# Altium footprint library Connector_Samtec_HLE_THT.PcbLib: 141 footprints (part 3 of 9)
Each footprint in its own frame and in the unit in brackets; x right, y up, seen from the top. Pads: shape width x height; smd on the part's side, far side on the other; paste and mask are expansions set on the pad; w line width, h text height; cw(c..) or ccw(c..) is an arc to the next point about the centre after c.
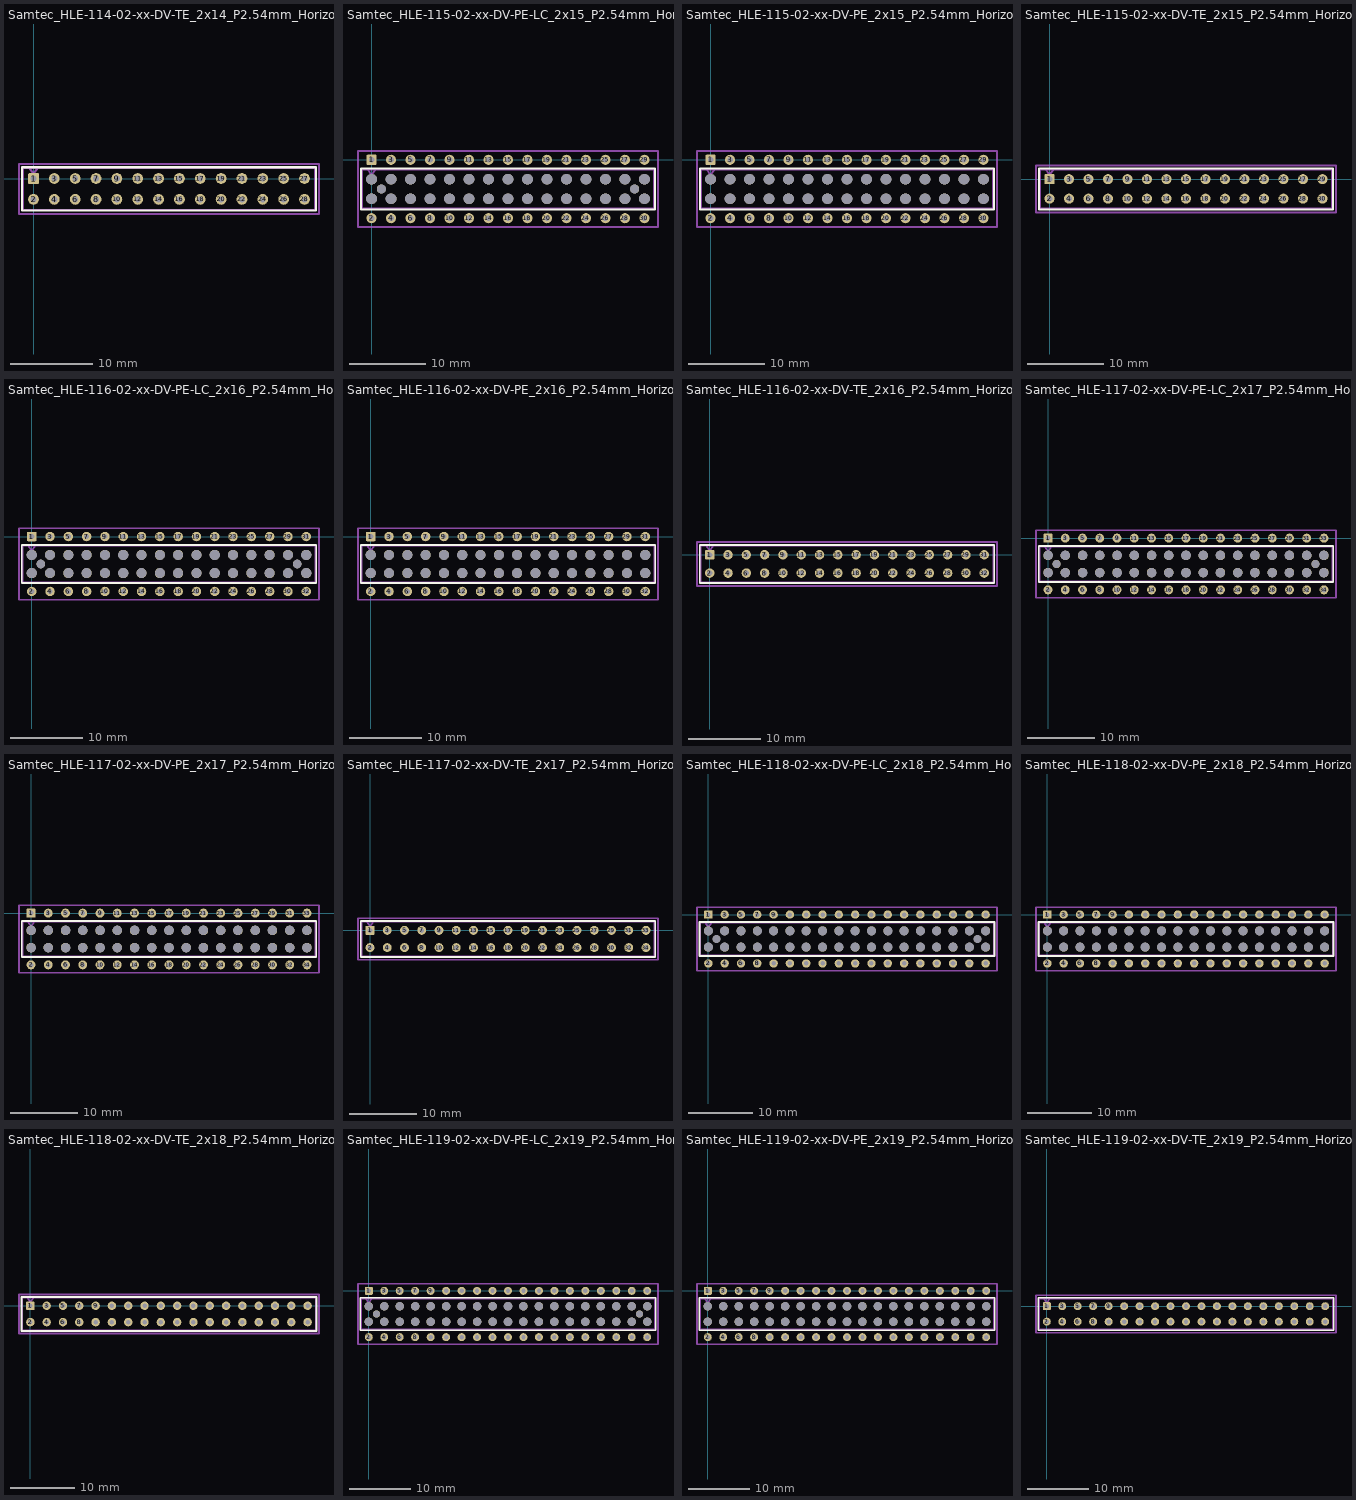
[diagram p2: the footprints below, top view; thin cyan lines are the x and y axes]

## Samtec_HLE-114-02-xx-DV-TE_2x14_P2.54mm_Horizontal [mm]
pads (28):
  rrect19% 1.31x1.31 hole 0.71: 1(0,0)
  round 1.31 hole 0.71: 2(0,-2.54) 3(2.54,0) 4(2.54,-2.54) 5(5.08,0) 6(5.08,-2.54) 7(7.62,0) 8(7.62,-2.54) 9(10.16,0) 10(10.16,-2.54) 11(12.7,0) 12(12.7,-2.54) 13(15.24,0) 14(15.24,-2.54) 15(17.78,0) 16(17.78,-2.54) 17(20.32,0) 18(20.32,-2.54) 19(22.86,0) 20(22.86,-2.54) 21(25.4,0) 22(25.4,-2.54) 23(27.94,0) 24(27.94,-2.54) 25(30.48,0) 26(30.48,-2.54) 27(33.02,0) 28(33.02,-2.54)
F.SilkS:
  lines w0.254: -1.38,-3.92 34.4,-3.92 34.4,1.38 -1.38,1.38 -1.38,-3.92
Top Assembly:
  lines w0.254: -0.5,1.27 0,0.563 0.5,1.27 ; -1.27,-3.81 34.29,-3.81 34.29,1.27 -1.27,1.27 -1.27,-3.81
  text "'.Designator'" at 12.463,-3.95 h1
Top Courtyard:
  lines w0.254: -1.77,-4.32 34.79,-4.32 34.79,1.77 -1.77,1.77 -1.77,-4.32
Top Designator:
  text ".Designator" at 8.892,-1.783 h1.52

## Samtec_HLE-115-02-xx-DV-PE-LC_2x15_P2.54mm_Horizontal [mm]
pads (62):
  rrect19% 1.31x1.31 hole 0.71: 1(0,0)
  round 1.31 hole 0.71: 2(0,-7.62) 3(2.54,0) 4(2.54,-7.62) 5(5.08,0) 6(5.08,-7.62) 7(7.62,0) 8(7.62,-7.62) 9(10.16,0) 10(10.16,-7.62) 11(12.7,0) 12(12.7,-7.62) 13(15.24,0) 14(15.24,-7.62) 15(17.78,0) 16(17.78,-7.62) 17(20.32,0) 18(20.32,-7.62) 19(22.86,0) 20(22.86,-7.62) 21(25.4,0) 22(25.4,-7.62) 23(27.94,0) 24(27.94,-7.62) 25(30.48,0) 26(30.48,-7.62) 27(33.02,0) 28(33.02,-7.62) 29(35.56,0) 30(35.56,-7.62)
  round 1.4 hole 1.4: Un1(0,-2.54) Un2(0,-5.08) Un4(2.54,-2.54) Un5(2.54,-5.08) Un6(5.08,-2.54) Un7(5.08,-5.08) Un8(7.62,-2.54) Un9(7.62,-5.08) Un10(10.16,-2.54) Un11(10.16,-5.08) Un12(12.7,-2.54) Un13(12.7,-5.08) Un14(15.24,-2.54) Un15(15.24,-5.08) Un16(17.78,-2.54) Un17(17.78,-5.08) Un18(20.32,-2.54) Un19(20.32,-5.08) Un20(22.86,-2.54) Un21(22.86,-5.08) Un22(25.4,-2.54) Un23(25.4,-5.08) Un24(27.94,-2.54) Un25(27.94,-5.08) Un26(30.48,-2.54) Un27(30.48,-5.08) Un28(33.02,-2.54) Un29(33.02,-5.08) Un31(35.56,-2.54) Un32(35.56,-5.08)
  round 1.19 hole 1.19: Un3(1.27,-3.81) Un30(34.29,-3.81)
F.SilkS:
  lines w0.254: -1.38,-6.46 36.94,-6.46 36.94,-1.16 -1.38,-1.16 -1.38,-6.46
Top Assembly:
  lines w0.254: -0.5,-1.27 0,-1.977 0.5,-1.27 ; -1.27,-6.35 36.83,-6.35 36.83,-1.27 -1.27,-1.27 -1.27,-6.35
  text "'.Designator'" at 13.733,-6.49 h1
Top Courtyard:
  lines w0.254: -1.77,-8.78 37.33,-8.78 37.33,1.16 -1.77,1.16 -1.77,-8.78
Top Designator:
  text ".Designator" at 10.162,-4.318 h1.52

## Samtec_HLE-115-02-xx-DV-PE_2x15_P2.54mm_Horizontal [mm]
pads (60):
  rrect19% 1.31x1.31 hole 0.71: 1(0,0)
  round 1.31 hole 0.71: 2(0,-7.62) 3(2.54,0) 4(2.54,-7.62) 5(5.08,0) 6(5.08,-7.62) 7(7.62,0) 8(7.62,-7.62) 9(10.16,0) 10(10.16,-7.62) 11(12.7,0) 12(12.7,-7.62) 13(15.24,0) 14(15.24,-7.62) 15(17.78,0) 16(17.78,-7.62) 17(20.32,0) 18(20.32,-7.62) 19(22.86,0) 20(22.86,-7.62) 21(25.4,0) 22(25.4,-7.62) 23(27.94,0) 24(27.94,-7.62) 25(30.48,0) 26(30.48,-7.62) 27(33.02,0) 28(33.02,-7.62) 29(35.56,0) 30(35.56,-7.62)
  round 1.4 hole 1.4: Un1(0,-2.54) Un2(0,-5.08) Un3(2.54,-2.54) Un4(2.54,-5.08) Un5(5.08,-2.54) Un6(5.08,-5.08) Un7(7.62,-2.54) Un8(7.62,-5.08) Un9(10.16,-2.54) Un10(10.16,-5.08) Un11(12.7,-2.54) Un12(12.7,-5.08) Un13(15.24,-2.54) Un14(15.24,-5.08) Un15(17.78,-2.54) Un16(17.78,-5.08) Un17(20.32,-2.54) Un18(20.32,-5.08) Un19(22.86,-2.54) Un20(22.86,-5.08) Un21(25.4,-2.54) Un22(25.4,-5.08) Un23(27.94,-2.54) Un24(27.94,-5.08) Un25(30.48,-2.54) Un26(30.48,-5.08) Un27(33.02,-2.54) Un28(33.02,-5.08) Un29(35.56,-2.54) Un30(35.56,-5.08)
F.SilkS:
  lines w0.254: -1.38,-6.46 36.94,-6.46 36.94,-1.16 -1.38,-1.16 -1.38,-6.46
Top Assembly:
  lines w0.254: -0.5,-1.27 0,-1.977 0.5,-1.27 ; -1.27,-6.35 36.83,-6.35 36.83,-1.27 -1.27,-1.27 -1.27,-6.35
  text "'.Designator'" at 13.733,-6.49 h1
Top Courtyard:
  lines w0.254: -1.77,-8.78 37.33,-8.78 37.33,1.16 -1.77,1.16 -1.77,-8.78
Top Designator:
  text ".Designator" at 10.162,-4.318 h1.52

## Samtec_HLE-115-02-xx-DV-TE_2x15_P2.54mm_Horizontal [mm]
pads (30):
  rrect19% 1.31x1.31 hole 0.71: 1(0,0)
  round 1.31 hole 0.71: 2(0,-2.54) 3(2.54,0) 4(2.54,-2.54) 5(5.08,0) 6(5.08,-2.54) 7(7.62,0) 8(7.62,-2.54) 9(10.16,0) 10(10.16,-2.54) 11(12.7,0) 12(12.7,-2.54) 13(15.24,0) 14(15.24,-2.54) 15(17.78,0) 16(17.78,-2.54) 17(20.32,0) 18(20.32,-2.54) 19(22.86,0) 20(22.86,-2.54) 21(25.4,0) 22(25.4,-2.54) 23(27.94,0) 24(27.94,-2.54) 25(30.48,0) 26(30.48,-2.54) 27(33.02,0) 28(33.02,-2.54) 29(35.56,0) 30(35.56,-2.54)
F.SilkS:
  lines w0.254: -1.38,-3.92 36.94,-3.92 36.94,1.38 -1.38,1.38 -1.38,-3.92
Top Assembly:
  lines w0.254: -0.5,1.27 0,0.563 0.5,1.27 ; -1.27,-3.81 36.83,-3.81 36.83,1.27 -1.27,1.27 -1.27,-3.81
  text "'.Designator'" at 13.733,-3.95 h1
Top Courtyard:
  lines w0.254: -1.77,-4.32 37.33,-4.32 37.33,1.77 -1.77,1.77 -1.77,-4.32
Top Designator:
  text ".Designator" at 10.162,-1.783 h1.52

## Samtec_HLE-116-02-xx-DV-PE-LC_2x16_P2.54mm_Horizontal [mm]
pads (66):
  rrect19% 1.31x1.31 hole 0.71: 1(0,0)
  round 1.31 hole 0.71: 2(0,-7.62) 3(2.54,0) 4(2.54,-7.62) 5(5.08,0) 6(5.08,-7.62) 7(7.62,0) 8(7.62,-7.62) 9(10.16,0) 10(10.16,-7.62) 11(12.7,0) 12(12.7,-7.62) 13(15.24,0) 14(15.24,-7.62) 15(17.78,0) 16(17.78,-7.62) 17(20.32,0) 18(20.32,-7.62) 19(22.86,0) 20(22.86,-7.62) 21(25.4,0) 22(25.4,-7.62) 23(27.94,0) 24(27.94,-7.62) 25(30.48,0) 26(30.48,-7.62) 27(33.02,0) 28(33.02,-7.62) 29(35.56,0) 30(35.56,-7.62) 31(38.1,0) 32(38.1,-7.62)
  round 1.4 hole 1.4: Un1(0,-2.54) Un2(0,-5.08) Un4(2.54,-2.54) Un5(2.54,-5.08) Un6(5.08,-2.54) Un7(5.08,-5.08) Un8(7.62,-2.54) Un9(7.62,-5.08) Un10(10.16,-2.54) Un11(10.16,-5.08) Un12(12.7,-2.54) Un13(12.7,-5.08) Un14(15.24,-2.54) Un15(15.24,-5.08) Un16(17.78,-2.54) Un17(17.78,-5.08) Un18(20.32,-2.54) Un19(20.32,-5.08) Un20(22.86,-2.54) Un21(22.86,-5.08) Un22(25.4,-2.54) Un23(25.4,-5.08) Un24(27.94,-2.54) Un25(27.94,-5.08) Un26(30.48,-2.54) Un27(30.48,-5.08) Un28(33.02,-2.54) Un29(33.02,-5.08) Un30(35.56,-2.54) Un31(35.56,-5.08) Un33(38.1,-2.54) Un34(38.1,-5.08)
  round 1.19 hole 1.19: Un3(1.27,-3.81) Un32(36.83,-3.81)
F.SilkS:
  lines w0.254: -1.38,-6.46 39.48,-6.46 39.48,-1.16 -1.38,-1.16 -1.38,-6.46
Top Assembly:
  lines w0.254: -0.5,-1.27 0,-1.977 0.5,-1.27 ; -1.27,-6.35 39.37,-6.35 39.37,-1.27 -1.27,-1.27 -1.27,-6.35
  text "'.Designator'" at 15.003,-6.49 h1
Top Courtyard:
  lines w0.254: -1.77,-8.78 39.87,-8.78 39.87,1.16 -1.77,1.16 -1.77,-8.78
Top Designator:
  text ".Designator" at 11.432,-4.318 h1.52

## Samtec_HLE-116-02-xx-DV-PE_2x16_P2.54mm_Horizontal [mm]
pads (64):
  rrect19% 1.31x1.31 hole 0.71: 1(0,0)
  round 1.31 hole 0.71: 2(0,-7.62) 3(2.54,0) 4(2.54,-7.62) 5(5.08,0) 6(5.08,-7.62) 7(7.62,0) 8(7.62,-7.62) 9(10.16,0) 10(10.16,-7.62) 11(12.7,0) 12(12.7,-7.62) 13(15.24,0) 14(15.24,-7.62) 15(17.78,0) 16(17.78,-7.62) 17(20.32,0) 18(20.32,-7.62) 19(22.86,0) 20(22.86,-7.62) 21(25.4,0) 22(25.4,-7.62) 23(27.94,0) 24(27.94,-7.62) 25(30.48,0) 26(30.48,-7.62) 27(33.02,0) 28(33.02,-7.62) 29(35.56,0) 30(35.56,-7.62) 31(38.1,0) 32(38.1,-7.62)
  round 1.4 hole 1.4: Un1(0,-2.54) Un2(0,-5.08) Un3(2.54,-2.54) Un4(2.54,-5.08) Un5(5.08,-2.54) Un6(5.08,-5.08) Un7(7.62,-2.54) Un8(7.62,-5.08) Un9(10.16,-2.54) Un10(10.16,-5.08) Un11(12.7,-2.54) Un12(12.7,-5.08) Un13(15.24,-2.54) Un14(15.24,-5.08) Un15(17.78,-2.54) Un16(17.78,-5.08) Un17(20.32,-2.54) Un18(20.32,-5.08) Un19(22.86,-2.54) Un20(22.86,-5.08) Un21(25.4,-2.54) Un22(25.4,-5.08) Un23(27.94,-2.54) Un24(27.94,-5.08) Un25(30.48,-2.54) Un26(30.48,-5.08) Un27(33.02,-2.54) Un28(33.02,-5.08) Un29(35.56,-2.54) Un30(35.56,-5.08) Un31(38.1,-2.54) Un32(38.1,-5.08)
F.SilkS:
  lines w0.254: -1.38,-6.46 39.48,-6.46 39.48,-1.16 -1.38,-1.16 -1.38,-6.46
Top Assembly:
  lines w0.254: -0.5,-1.27 0,-1.977 0.5,-1.27 ; -1.27,-6.35 39.37,-6.35 39.37,-1.27 -1.27,-1.27 -1.27,-6.35
  text "'.Designator'" at 15.003,-6.49 h1
Top Courtyard:
  lines w0.254: -1.77,-8.78 39.87,-8.78 39.87,1.16 -1.77,1.16 -1.77,-8.78
Top Designator:
  text ".Designator" at 11.432,-4.318 h1.52

## Samtec_HLE-116-02-xx-DV-TE_2x16_P2.54mm_Horizontal [mm]
pads (32):
  rrect19% 1.31x1.31 hole 0.71: 1(0,0)
  round 1.31 hole 0.71: 2(0,-2.54) 3(2.54,0) 4(2.54,-2.54) 5(5.08,0) 6(5.08,-2.54) 7(7.62,0) 8(7.62,-2.54) 9(10.16,0) 10(10.16,-2.54) 11(12.7,0) 12(12.7,-2.54) 13(15.24,0) 14(15.24,-2.54) 15(17.78,0) 16(17.78,-2.54) 17(20.32,0) 18(20.32,-2.54) 19(22.86,0) 20(22.86,-2.54) 21(25.4,0) 22(25.4,-2.54) 23(27.94,0) 24(27.94,-2.54) 25(30.48,0) 26(30.48,-2.54) 27(33.02,0) 28(33.02,-2.54) 29(35.56,0) 30(35.56,-2.54) 31(38.1,0) 32(38.1,-2.54)
F.SilkS:
  lines w0.254: -1.38,-3.92 39.48,-3.92 39.48,1.38 -1.38,1.38 -1.38,-3.92
Top Assembly:
  lines w0.254: -0.5,1.27 0,0.563 0.5,1.27 ; -1.27,-3.81 39.37,-3.81 39.37,1.27 -1.27,1.27 -1.27,-3.81
  text "'.Designator'" at 15.003,-3.95 h1
Top Courtyard:
  lines w0.254: -1.77,-4.32 39.87,-4.32 39.87,1.77 -1.77,1.77 -1.77,-4.32
Top Designator:
  text ".Designator" at 11.432,-1.783 h1.52

## Samtec_HLE-117-02-xx-DV-PE-LC_2x17_P2.54mm_Horizontal [mm]
pads (70):
  rrect19% 1.31x1.31 hole 0.71: 1(0,0)
  round 1.31 hole 0.71: 2(0,-7.62) 3(2.54,0) 4(2.54,-7.62) 5(5.08,0) 6(5.08,-7.62) 7(7.62,0) 8(7.62,-7.62) 9(10.16,0) 10(10.16,-7.62) 11(12.7,0) 12(12.7,-7.62) 13(15.24,0) 14(15.24,-7.62) 15(17.78,0) 16(17.78,-7.62) 17(20.32,0) 18(20.32,-7.62) 19(22.86,0) 20(22.86,-7.62) 21(25.4,0) 22(25.4,-7.62) 23(27.94,0) 24(27.94,-7.62) 25(30.48,0) 26(30.48,-7.62) 27(33.02,0) 28(33.02,-7.62) 29(35.56,0) 30(35.56,-7.62) 31(38.1,0) 32(38.1,-7.62) 33(40.64,0) 34(40.64,-7.62)
  round 1.4 hole 1.4: Un1(0,-2.54) Un2(0,-5.08) Un4(2.54,-2.54) Un5(2.54,-5.08) Un6(5.08,-2.54) Un7(5.08,-5.08) Un8(7.62,-2.54) Un9(7.62,-5.08) Un10(10.16,-2.54) Un11(10.16,-5.08) Un12(12.7,-2.54) Un13(12.7,-5.08) Un14(15.24,-2.54) Un15(15.24,-5.08) Un16(17.78,-2.54) Un17(17.78,-5.08) Un18(20.32,-2.54) Un19(20.32,-5.08) Un20(22.86,-2.54) Un21(22.86,-5.08) Un22(25.4,-2.54) Un23(25.4,-5.08) Un24(27.94,-2.54) Un25(27.94,-5.08) Un26(30.48,-2.54) Un27(30.48,-5.08) Un28(33.02,-2.54) Un29(33.02,-5.08) Un30(35.56,-2.54) Un31(35.56,-5.08) Un32(38.1,-2.54) Un33(38.1,-5.08) Un35(40.64,-2.54) Un36(40.64,-5.08)
  round 1.19 hole 1.19: Un3(1.27,-3.81) Un34(39.37,-3.81)
F.SilkS:
  lines w0.254: -1.38,-6.46 42.02,-6.46 42.02,-1.16 -1.38,-1.16 -1.38,-6.46
Top Assembly:
  lines w0.254: -0.5,-1.27 0,-1.977 0.5,-1.27 ; -1.27,-6.35 41.91,-6.35 41.91,-1.27 -1.27,-1.27 -1.27,-6.35
  text "'.Designator'" at 16.273,-6.49 h1
Top Courtyard:
  lines w0.254: -1.77,-8.78 42.41,-8.78 42.41,1.16 -1.77,1.16 -1.77,-8.78
Top Designator:
  text ".Designator" at 12.702,-4.318 h1.52

## Samtec_HLE-117-02-xx-DV-PE_2x17_P2.54mm_Horizontal [mm]
pads (68):
  rrect19% 1.31x1.31 hole 0.71: 1(0,0)
  round 1.31 hole 0.71: 2(0,-7.62) 3(2.54,0) 4(2.54,-7.62) 5(5.08,0) 6(5.08,-7.62) 7(7.62,0) 8(7.62,-7.62) 9(10.16,0) 10(10.16,-7.62) 11(12.7,0) 12(12.7,-7.62) 13(15.24,0) 14(15.24,-7.62) 15(17.78,0) 16(17.78,-7.62) 17(20.32,0) 18(20.32,-7.62) 19(22.86,0) 20(22.86,-7.62) 21(25.4,0) 22(25.4,-7.62) 23(27.94,0) 24(27.94,-7.62) 25(30.48,0) 26(30.48,-7.62) 27(33.02,0) 28(33.02,-7.62) 29(35.56,0) 30(35.56,-7.62) 31(38.1,0) 32(38.1,-7.62) 33(40.64,0) 34(40.64,-7.62)
  round 1.4 hole 1.4: Un1(0,-2.54) Un2(0,-5.08) Un3(2.54,-2.54) Un4(2.54,-5.08) Un5(5.08,-2.54) Un6(5.08,-5.08) Un7(7.62,-2.54) Un8(7.62,-5.08) Un9(10.16,-2.54) Un10(10.16,-5.08) Un11(12.7,-2.54) Un12(12.7,-5.08) Un13(15.24,-2.54) Un14(15.24,-5.08) Un15(17.78,-2.54) Un16(17.78,-5.08) Un17(20.32,-2.54) Un18(20.32,-5.08) Un19(22.86,-2.54) Un20(22.86,-5.08) Un21(25.4,-2.54) Un22(25.4,-5.08) Un23(27.94,-2.54) Un24(27.94,-5.08) Un25(30.48,-2.54) Un26(30.48,-5.08) Un27(33.02,-2.54) Un28(33.02,-5.08) Un29(35.56,-2.54) Un30(35.56,-5.08) Un31(38.1,-2.54) Un32(38.1,-5.08) Un33(40.64,-2.54) Un34(40.64,-5.08)
F.SilkS:
  lines w0.254: -1.38,-6.46 42.02,-6.46 42.02,-1.16 -1.38,-1.16 -1.38,-6.46
Top Assembly:
  lines w0.254: -0.5,-1.27 0,-1.977 0.5,-1.27 ; -1.27,-6.35 41.91,-6.35 41.91,-1.27 -1.27,-1.27 -1.27,-6.35
  text "'.Designator'" at 16.273,-6.49 h1
Top Courtyard:
  lines w0.254: -1.77,-8.78 42.41,-8.78 42.41,1.16 -1.77,1.16 -1.77,-8.78
Top Designator:
  text ".Designator" at 12.702,-4.318 h1.52

## Samtec_HLE-117-02-xx-DV-TE_2x17_P2.54mm_Horizontal [mm]
pads (34):
  rrect19% 1.31x1.31 hole 0.71: 1(0,0)
  round 1.31 hole 0.71: 2(0,-2.54) 3(2.54,0) 4(2.54,-2.54) 5(5.08,0) 6(5.08,-2.54) 7(7.62,0) 8(7.62,-2.54) 9(10.16,0) 10(10.16,-2.54) 11(12.7,0) 12(12.7,-2.54) 13(15.24,0) 14(15.24,-2.54) 15(17.78,0) 16(17.78,-2.54) 17(20.32,0) 18(20.32,-2.54) 19(22.86,0) 20(22.86,-2.54) 21(25.4,0) 22(25.4,-2.54) 23(27.94,0) 24(27.94,-2.54) 25(30.48,0) 26(30.48,-2.54) 27(33.02,0) 28(33.02,-2.54) 29(35.56,0) 30(35.56,-2.54) 31(38.1,0) 32(38.1,-2.54) 33(40.64,0) 34(40.64,-2.54)
F.SilkS:
  lines w0.254: -1.38,-3.92 42.02,-3.92 42.02,1.38 -1.38,1.38 -1.38,-3.92
Top Assembly:
  lines w0.254: -0.5,1.27 0,0.563 0.5,1.27 ; -1.27,-3.81 41.91,-3.81 41.91,1.27 -1.27,1.27 -1.27,-3.81
  text "'.Designator'" at 16.273,-3.95 h1
Top Courtyard:
  lines w0.254: -1.77,-4.32 42.41,-4.32 42.41,1.77 -1.77,1.77 -1.77,-4.32
Top Designator:
  text ".Designator" at 12.702,-1.783 h1.52

## Samtec_HLE-118-02-xx-DV-PE-LC_2x18_P2.54mm_Horizontal [mm]
pads (74):
  rrect19% 1.31x1.31 hole 0.71: 1(0,0)
  round 1.31 hole 0.71: 2(0,-7.62) 3(2.54,0) 4(2.54,-7.62) 5(5.08,0) 6(5.08,-7.62) 7(7.62,0) 8(7.62,-7.62) 9(10.16,0) 10(10.16,-7.62) 11(12.7,0) 12(12.7,-7.62) 13(15.24,0) 14(15.24,-7.62) 15(17.78,0) 16(17.78,-7.62) 17(20.32,0) 18(20.32,-7.62) 19(22.86,0) 20(22.86,-7.62) 21(25.4,0) 22(25.4,-7.62) 23(27.94,0) 24(27.94,-7.62) 25(30.48,0) 26(30.48,-7.62) 27(33.02,0) 28(33.02,-7.62) 29(35.56,0) 30(35.56,-7.62) 31(38.1,0) 32(38.1,-7.62) 33(40.64,0) 34(40.64,-7.62) 35(43.18,0) 36(43.18,-7.62)
  round 1.4 hole 1.4: Un1(0,-2.54) Un2(0,-5.08) Un4(2.54,-2.54) Un5(2.54,-5.08) Un6(5.08,-2.54) Un7(5.08,-5.08) Un8(7.62,-2.54) Un9(7.62,-5.08) Un10(10.16,-2.54) Un11(10.16,-5.08) Un12(12.7,-2.54) Un13(12.7,-5.08) Un14(15.24,-2.54) Un15(15.24,-5.08) Un16(17.78,-2.54) Un17(17.78,-5.08) Un18(20.32,-2.54) Un19(20.32,-5.08) Un20(22.86,-2.54) Un21(22.86,-5.08) Un22(25.4,-2.54) Un23(25.4,-5.08) Un24(27.94,-2.54) Un25(27.94,-5.08) Un26(30.48,-2.54) Un27(30.48,-5.08) Un28(33.02,-2.54) Un29(33.02,-5.08) Un30(35.56,-2.54) Un31(35.56,-5.08) Un32(38.1,-2.54) Un33(38.1,-5.08) Un34(40.64,-2.54) Un35(40.64,-5.08) Un37(43.18,-2.54) Un38(43.18,-5.08)
  round 1.19 hole 1.19: Un3(1.27,-3.81) Un36(41.91,-3.81)
F.SilkS:
  lines w0.254: -1.38,-6.46 44.56,-6.46 44.56,-1.16 -1.38,-1.16 -1.38,-6.46
Top Assembly:
  lines w0.254: -0.5,-1.27 0,-1.977 0.5,-1.27 ; -1.27,-6.35 44.45,-6.35 44.45,-1.27 -1.27,-1.27 -1.27,-6.35
  text "'.Designator'" at 17.543,-6.49 h1
Top Courtyard:
  lines w0.254: -1.77,-8.78 44.95,-8.78 44.95,1.16 -1.77,1.16 -1.77,-8.78
Top Designator:
  text ".Designator" at 13.972,-4.318 h1.52

## Samtec_HLE-118-02-xx-DV-PE_2x18_P2.54mm_Horizontal [mm]
pads (72):
  rrect19% 1.31x1.31 hole 0.71: 1(0,0)
  round 1.31 hole 0.71: 2(0,-7.62) 3(2.54,0) 4(2.54,-7.62) 5(5.08,0) 6(5.08,-7.62) 7(7.62,0) 8(7.62,-7.62) 9(10.16,0) 10(10.16,-7.62) 11(12.7,0) 12(12.7,-7.62) 13(15.24,0) 14(15.24,-7.62) 15(17.78,0) 16(17.78,-7.62) 17(20.32,0) 18(20.32,-7.62) 19(22.86,0) 20(22.86,-7.62) 21(25.4,0) 22(25.4,-7.62) 23(27.94,0) 24(27.94,-7.62) 25(30.48,0) 26(30.48,-7.62) 27(33.02,0) 28(33.02,-7.62) 29(35.56,0) 30(35.56,-7.62) 31(38.1,0) 32(38.1,-7.62) 33(40.64,0) 34(40.64,-7.62) 35(43.18,0) 36(43.18,-7.62)
  round 1.4 hole 1.4: Un1(0,-2.54) Un2(0,-5.08) Un3(2.54,-2.54) Un4(2.54,-5.08) Un5(5.08,-2.54) Un6(5.08,-5.08) Un7(7.62,-2.54) Un8(7.62,-5.08) Un9(10.16,-2.54) Un10(10.16,-5.08) Un11(12.7,-2.54) Un12(12.7,-5.08) Un13(15.24,-2.54) Un14(15.24,-5.08) Un15(17.78,-2.54) Un16(17.78,-5.08) Un17(20.32,-2.54) Un18(20.32,-5.08) Un19(22.86,-2.54) Un20(22.86,-5.08) Un21(25.4,-2.54) Un22(25.4,-5.08) Un23(27.94,-2.54) Un24(27.94,-5.08) Un25(30.48,-2.54) Un26(30.48,-5.08) Un27(33.02,-2.54) Un28(33.02,-5.08) Un29(35.56,-2.54) Un30(35.56,-5.08) Un31(38.1,-2.54) Un32(38.1,-5.08) Un33(40.64,-2.54) Un34(40.64,-5.08) Un35(43.18,-2.54) Un36(43.18,-5.08)
F.SilkS:
  lines w0.254: -1.38,-6.46 44.56,-6.46 44.56,-1.16 -1.38,-1.16 -1.38,-6.46
Top Assembly:
  lines w0.254: -0.5,-1.27 0,-1.977 0.5,-1.27 ; -1.27,-6.35 44.45,-6.35 44.45,-1.27 -1.27,-1.27 -1.27,-6.35
  text "'.Designator'" at 17.543,-6.49 h1
Top Courtyard:
  lines w0.254: -1.77,-8.78 44.95,-8.78 44.95,1.16 -1.77,1.16 -1.77,-8.78
Top Designator:
  text ".Designator" at 13.972,-4.318 h1.52

## Samtec_HLE-118-02-xx-DV-TE_2x18_P2.54mm_Horizontal [mm]
pads (36):
  rrect19% 1.31x1.31 hole 0.71: 1(0,0)
  round 1.31 hole 0.71: 2(0,-2.54) 3(2.54,0) 4(2.54,-2.54) 5(5.08,0) 6(5.08,-2.54) 7(7.62,0) 8(7.62,-2.54) 9(10.16,0) 10(10.16,-2.54) 11(12.7,0) 12(12.7,-2.54) 13(15.24,0) 14(15.24,-2.54) 15(17.78,0) 16(17.78,-2.54) 17(20.32,0) 18(20.32,-2.54) 19(22.86,0) 20(22.86,-2.54) 21(25.4,0) 22(25.4,-2.54) 23(27.94,0) 24(27.94,-2.54) 25(30.48,0) 26(30.48,-2.54) 27(33.02,0) 28(33.02,-2.54) 29(35.56,0) 30(35.56,-2.54) 31(38.1,0) 32(38.1,-2.54) 33(40.64,0) 34(40.64,-2.54) 35(43.18,0) 36(43.18,-2.54)
F.SilkS:
  lines w0.254: -1.38,-3.92 44.56,-3.92 44.56,1.38 -1.38,1.38 -1.38,-3.92
Top Assembly:
  lines w0.254: -0.5,1.27 0,0.563 0.5,1.27 ; -1.27,-3.81 44.45,-3.81 44.45,1.27 -1.27,1.27 -1.27,-3.81
  text "'.Designator'" at 17.543,-3.95 h1
Top Courtyard:
  lines w0.254: -1.77,-4.32 44.95,-4.32 44.95,1.77 -1.77,1.77 -1.77,-4.32
Top Designator:
  text ".Designator" at 13.972,-1.783 h1.52

## Samtec_HLE-119-02-xx-DV-PE-LC_2x19_P2.54mm_Horizontal [mm]
pads (78):
  rrect19% 1.31x1.31 hole 0.71: 1(0,0)
  round 1.31 hole 0.71: 2(0,-7.62) 3(2.54,0) 4(2.54,-7.62) 5(5.08,0) 6(5.08,-7.62) 7(7.62,0) 8(7.62,-7.62) 9(10.16,0) 10(10.16,-7.62) 11(12.7,0) 12(12.7,-7.62) 13(15.24,0) 14(15.24,-7.62) 15(17.78,0) 16(17.78,-7.62) 17(20.32,0) 18(20.32,-7.62) 19(22.86,0) 20(22.86,-7.62) 21(25.4,0) 22(25.4,-7.62) 23(27.94,0) 24(27.94,-7.62) 25(30.48,0) 26(30.48,-7.62) 27(33.02,0) 28(33.02,-7.62) 29(35.56,0) 30(35.56,-7.62) 31(38.1,0) 32(38.1,-7.62) 33(40.64,0) 34(40.64,-7.62) 35(43.18,0) 36(43.18,-7.62) 37(45.72,0) 38(45.72,-7.62)
  round 1.4 hole 1.4: Un1(0,-2.54) Un2(0,-5.08) Un4(2.54,-2.54) Un5(2.54,-5.08) Un6(5.08,-2.54) Un7(5.08,-5.08) Un8(7.62,-2.54) Un9(7.62,-5.08) Un10(10.16,-2.54) Un11(10.16,-5.08) Un12(12.7,-2.54) Un13(12.7,-5.08) Un14(15.24,-2.54) Un15(15.24,-5.08) Un16(17.78,-2.54) Un17(17.78,-5.08) Un18(20.32,-2.54) Un19(20.32,-5.08) Un20(22.86,-2.54) Un21(22.86,-5.08) Un22(25.4,-2.54) Un23(25.4,-5.08) Un24(27.94,-2.54) Un25(27.94,-5.08) Un26(30.48,-2.54) Un27(30.48,-5.08) Un28(33.02,-2.54) Un29(33.02,-5.08) Un30(35.56,-2.54) Un31(35.56,-5.08) Un32(38.1,-2.54) Un33(38.1,-5.08) Un34(40.64,-2.54) Un35(40.64,-5.08) Un36(43.18,-2.54) Un37(43.18,-5.08) Un39(45.72,-2.54) Un40(45.72,-5.08)
  round 1.19 hole 1.19: Un3(1.27,-3.81) Un38(44.45,-3.81)
F.SilkS:
  lines w0.254: -1.38,-6.46 47.1,-6.46 47.1,-1.16 -1.38,-1.16 -1.38,-6.46
Top Assembly:
  lines w0.254: -0.5,-1.27 0,-1.977 0.5,-1.27 ; -1.27,-6.35 46.99,-6.35 46.99,-1.27 -1.27,-1.27 -1.27,-6.35
  text "'.Designator'" at 18.813,-6.49 h1
Top Courtyard:
  lines w0.254: -1.77,-8.78 47.49,-8.78 47.49,1.16 -1.77,1.16 -1.77,-8.78
Top Designator:
  text ".Designator" at 15.242,-4.318 h1.52

## Samtec_HLE-119-02-xx-DV-PE_2x19_P2.54mm_Horizontal [mm]
pads (76):
  rrect19% 1.31x1.31 hole 0.71: 1(0,0)
  round 1.31 hole 0.71: 2(0,-7.62) 3(2.54,0) 4(2.54,-7.62) 5(5.08,0) 6(5.08,-7.62) 7(7.62,0) 8(7.62,-7.62) 9(10.16,0) 10(10.16,-7.62) 11(12.7,0) 12(12.7,-7.62) 13(15.24,0) 14(15.24,-7.62) 15(17.78,0) 16(17.78,-7.62) 17(20.32,0) 18(20.32,-7.62) 19(22.86,0) 20(22.86,-7.62) 21(25.4,0) 22(25.4,-7.62) 23(27.94,0) 24(27.94,-7.62) 25(30.48,0) 26(30.48,-7.62) 27(33.02,0) 28(33.02,-7.62) 29(35.56,0) 30(35.56,-7.62) 31(38.1,0) 32(38.1,-7.62) 33(40.64,0) 34(40.64,-7.62) 35(43.18,0) 36(43.18,-7.62) 37(45.72,0) 38(45.72,-7.62)
  round 1.4 hole 1.4: Un1(0,-2.54) Un2(0,-5.08) Un3(2.54,-2.54) Un4(2.54,-5.08) Un5(5.08,-2.54) Un6(5.08,-5.08) Un7(7.62,-2.54) Un8(7.62,-5.08) Un9(10.16,-2.54) Un10(10.16,-5.08) Un11(12.7,-2.54) Un12(12.7,-5.08) Un13(15.24,-2.54) Un14(15.24,-5.08) Un15(17.78,-2.54) Un16(17.78,-5.08) Un17(20.32,-2.54) Un18(20.32,-5.08) Un19(22.86,-2.54) Un20(22.86,-5.08) Un21(25.4,-2.54) Un22(25.4,-5.08) Un23(27.94,-2.54) Un24(27.94,-5.08) Un25(30.48,-2.54) Un26(30.48,-5.08) Un27(33.02,-2.54) Un28(33.02,-5.08) Un29(35.56,-2.54) Un30(35.56,-5.08) Un31(38.1,-2.54) Un32(38.1,-5.08) Un33(40.64,-2.54) Un34(40.64,-5.08) Un35(43.18,-2.54) Un36(43.18,-5.08) Un37(45.72,-2.54) Un38(45.72,-5.08)
F.SilkS:
  lines w0.254: -1.38,-6.46 47.1,-6.46 47.1,-1.16 -1.38,-1.16 -1.38,-6.46
Top Assembly:
  lines w0.254: -0.5,-1.27 0,-1.977 0.5,-1.27 ; -1.27,-6.35 46.99,-6.35 46.99,-1.27 -1.27,-1.27 -1.27,-6.35
  text "'.Designator'" at 18.813,-6.49 h1
Top Courtyard:
  lines w0.254: -1.77,-8.78 47.49,-8.78 47.49,1.16 -1.77,1.16 -1.77,-8.78
Top Designator:
  text ".Designator" at 15.242,-4.318 h1.52

## Samtec_HLE-119-02-xx-DV-TE_2x19_P2.54mm_Horizontal [mm]
pads (38):
  rrect19% 1.31x1.31 hole 0.71: 1(0,0)
  round 1.31 hole 0.71: 2(0,-2.54) 3(2.54,0) 4(2.54,-2.54) 5(5.08,0) 6(5.08,-2.54) 7(7.62,0) 8(7.62,-2.54) 9(10.16,0) 10(10.16,-2.54) 11(12.7,0) 12(12.7,-2.54) 13(15.24,0) 14(15.24,-2.54) 15(17.78,0) 16(17.78,-2.54) 17(20.32,0) 18(20.32,-2.54) 19(22.86,0) 20(22.86,-2.54) 21(25.4,0) 22(25.4,-2.54) 23(27.94,0) 24(27.94,-2.54) 25(30.48,0) 26(30.48,-2.54) 27(33.02,0) 28(33.02,-2.54) 29(35.56,0) 30(35.56,-2.54) 31(38.1,0) 32(38.1,-2.54) 33(40.64,0) 34(40.64,-2.54) 35(43.18,0) 36(43.18,-2.54) 37(45.72,0) 38(45.72,-2.54)
F.SilkS:
  lines w0.254: -1.38,-3.92 47.1,-3.92 47.1,1.38 -1.38,1.38 -1.38,-3.92
Top Assembly:
  lines w0.254: -0.5,1.27 0,0.563 0.5,1.27 ; -1.27,-3.81 46.99,-3.81 46.99,1.27 -1.27,1.27 -1.27,-3.81
  text "'.Designator'" at 18.813,-3.95 h1
Top Courtyard:
  lines w0.254: -1.77,-4.32 47.49,-4.32 47.49,1.77 -1.77,1.77 -1.77,-4.32
Top Designator:
  text ".Designator" at 15.242,-1.783 h1.52